# Altium schematic symbol library Banana_Red.SchLib: 1 symbol
Pins are listed as number, name and electrical type; pins without a type are passive.

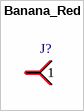
[diagram p0: symbol Banana_Red]

## Banana_Red
designator J?  (value not drawn)
Connector, 1x1
pins: 1